# Altium footprint library SOIC120P1500X250-17N-V.PcbLib: 1 footprints
Each footprint in its own frame and in the unit in brackets; x right, y up, seen from the top. Pads: shape width x height; smd on the part's side, far side on the other; paste and mask are expansions set on the pad; w line width, h text height; cw(c..) or ccw(c..) is an arc to the next point about the centre after c.
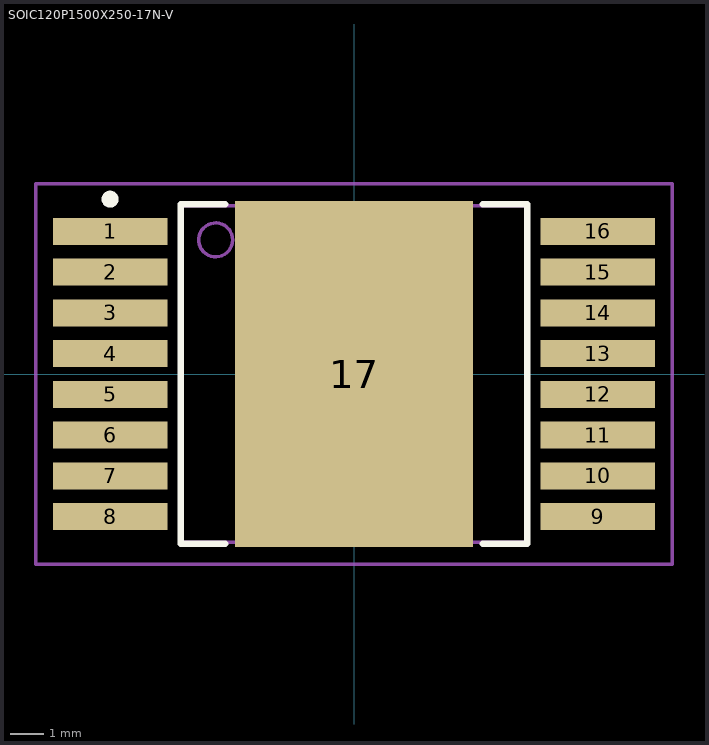
[diagram p0: the footprint, top view; thin cyan lines are the x and y axes]

## SOIC120P1500X250-17N-V [mm] "SOIC,1.20mm,pitch;16 pin,10.10mm W X 9.90mm L X 2.50mm H body (w/thermal tab)"
height 2.5
pads (17):
  rect 3.375x0.8 smd paste+0 mask+0: 1(-7.185,4.2) 2(-7.185,3) 3(-7.185,1.8) 4(-7.185,0.6) 5(-7.185,-0.6) 6(-7.185,-1.8) 7(-7.185,-3) 8(-7.185,-4.2) 9(7.185,-4.2) 10(7.185,-3) 11(7.185,-1.8) 12(7.185,-0.6) 13(7.185,0.6) 14(7.185,1.8) 15(7.185,3) 16(7.185,4.2)
  rect 7x10.2 smd paste-3.5 mask+0: 17(0,0)
Top Overlay:
  circle w0.25: c-7.185,5.15 r0.125
  lines w0.2: -3.8,-5 -5.1,-5 -5.1,5 -3.8,5 ; 3.8,-5 5.1,-5 5.1,5 3.8,5
M3 (ASY_Text_Top):
  text ".DESIGNATOR" at -3.643,-0.385 h1.2
M13 (CMP_Body_OTL_Top):
  circle w0.1: c-4.075,3.95 r0.5
  lines w0.1: -5.05,-4.95 -5.05,4.95 5.05,4.95 5.05,-4.95 -5.05,-4.95
M15 (CMP_Courtyard_Top):
  lines w0.1: -0.5,0 0.5,0 ; 0,-0.5 0,0.5 ; -9.372,-5.6 -9.372,5.6 9.372,5.6 9.372,-5.6 -9.372,-5.6
3D body "PG-HDSOP-16-9_Z8B00250845_V02_3D.stp": height 2.5, standoff 0, extent -7.5,-4.95 7.5,4.95